# EAGLE library part 1991341 (library 1991341)
PCB terminal block, nominal current: 24 A, rated voltage (III/2): 400 V, nominal cross section: 2.5 mm?, Number of potentials: 10, Number of rows: 1, Number of positions per row: 10, product range: MKDSN 2,5, pitch: 5.08 mm, connection method: Screw connection with tension sleeve, mounting: Wave soldering, conductor/PCB connection direction: 0 ?, color: green, Pin layout: Linear pinning, Solder pin [P]: 3.5 mm, type of packaging: packed in cardboard. The article can be aligned to create different nos. of po Source: Datasheet <http://www.phoenixcontact.com/de/produkte/1991341/pdf>
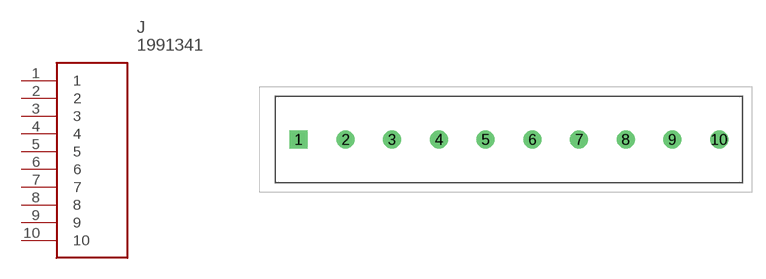
[diagram p0: symbol with the pads of 1991341; footprint 1991341]

Designator prefix J

## 1991341 (Description: PCB terminal block, nominal current: 24 A, rated voltage (III/2): 400 V, nominal cross section: 2.5 mm?, Number of potentials: 10, Number of rows: 1, Number of positions per row: 10, product range: MKDSN 2,5, pitch: 5.08 mm, connection method: Screw connection with tension sleeve, mounting: Wave soldering, conductor/PCB connection direction: 0 ?, color: green, Pin layout: Linear pinning, Solder pin [P]: 3.5 mm, type of packaging: packed in cardboard. The article can be aligned to create different nos. of po; Height: 15.15mm; Manufacturer_Name: Phoenix Contact; Manufacturer_Part_Number: 1991341; Mouser_Part_Number: 651-1991341; Mouser_Price-Stock: https://www.mouser.co.uk/ProductDetail/Phoenix-Contact/1991341?qs=MfVUZiz0PxYqEbuQrw2QtQ%3D%3D)  [1991341]
1  1
2  2
3  3
4  4
5  5
6  6
7  7
8  8
9  9
10  10

## Footprint 1991341 (pad centres in mm)
1991341
drill 1.3 pad 1.95 square: 1 0,0
drill 1.3 pad 1.95: 2 5.08,0; 3 10.16,0; 4 15.24,0; 5 20.32,0; 6 25.4,0; 7 30.48,0; 8 35.56,0; 9 40.64,0; 10 45.72,0